# Altium schematic symbol library HX710B.SCHLIB: 1 symbol
Pins are listed as number, name and electrical type; pins without a type are passive.

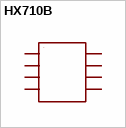
[diagram p0: symbol HX710B]

## HX710B
designator ?
GateName_1: G$1; SymbolName_1: HX710B_SMD; DeviceSetName: HX710B; LibraryName: HX710B; Package: HX710B_SMD
footprint HX710B_SMD
pins: AGND (io), AVDD (io), DOUT (io), DVDD (io), INN (io), INP (io), SCK (io), VREF (io)